# EAGLE library part RCLAMP3304N (library aq-diode)
TVS ARRAY, SEMTECH
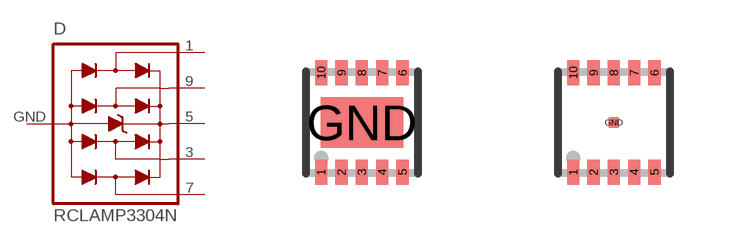
[diagram p9: symbol with the pads of SLP2626P10; footprints SLP2626P10, SLP2626P10_R]

Designator prefix D

## RCLAMP3304N  [SLP2626P10]
1  IO3  pas
3  IO2  pas
5  VP  pas
7  IO4  pas
9  IO1  pas
GND  VN  pas

## RCLAMP3304N_R  [SLP2626P10_R]
Pads as for SLP2626P10

## Footprint SLP2626P10 (pad centres in mm)
SLP2626P10, SEMTECH
smd 0.305 x 0.635: 1 -1.016,-1.245; 2 -0.508,-1.245; 3 0,-1.245; 4 0.508,-1.245; 5 1.016,-1.245; 6 1.016,1.245; 7 0.508,1.245; 8 0,1.245; 9 -0.508,1.245; 10 -1.016,1.245
smd 2.057 x 1.27: GND 0,0

## Footprint SLP2626P10_R (pad centres in mm)
SLP2626P10, SEMTECH Alternate reflow style package for poly GND fill under part.
smd 0.305 x 0.635: 1 -1.016,-1.245; 2 -0.508,-1.245; 3 0,-1.245; 4 0.508,-1.245; 5 1.016,-1.245; 6 1.016,1.245; 7 0.508,1.245; 8 0,1.245; 9 -0.508,1.245; 10 -1.016,1.245
smd 0.254 x 0.254: GND 0,0